# EAGLE library part SSW-108-01-G-S (library SamacSys_Parts)
8 Position, .100" Tiger Buy™ Socket Strip Source: Datasheet <http://suddendocs.samtec.com/prints/ssw-1xx-xx-xxx-x-xx-xxx-xx-mkt.pdf>
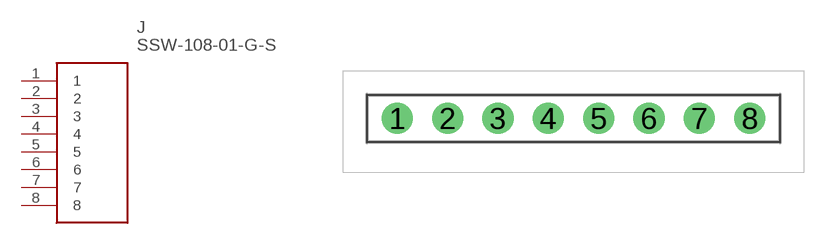
[diagram p249: symbol with the pads of SSW-108-XX-YYY-S; footprint SSW-108-XX-YYY-S]

Designator prefix J

## SSW-108-01-G-S (ARROW_PART_NUMBER: SSW-108-01-G-S; ARROW_PRICE-STOCK: https://www.arrow.com/en/products/ssw-108-01-g-s/samtec; DESCRIPTION: 8 Position, .100&quot; Tiger Buy&trade; Socket Strip; HEIGHT: 8.51mm; MANUFACTURER_NAME: SAMTEC; MANUFACTURER_PART_NUMBER: SSW-108-01-G-S; MOUSER_PART_NUMBER: 200-SSW10801GS; MOUSER_PRICE-STOCK: https://www.mouser.co.uk/ProductDetail/Samtec/SSW-108-01-G-S?qs=FESYatJ8odLaL9GxbCQJ2g%3D%3D)  [SSW-108-XX-YYY-S]
1  1
2  2
3  3
4  4
5  5
6  6
7  7
8  8

## Footprint SSW-108-XX-YYY-S (pad centres in mm)
SSW-108-01-G-S
drill 1.04 pad 1.57: 1 0,0; 2 2.54,0; 3 5.08,0; 4 7.62,0; 5 10.16,0; 6 12.7,0; 7 15.24,0; 8 17.78,0